# Altium schematic symbol library GD25LQ128DWIGR.SchLib: 1 symbol
Pins are listed as number, name and electrical type; pins without a type are passive.

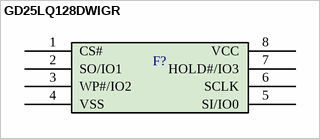
[diagram p0: symbol GD25LQ128DWIGR]

## GD25LQ128DWIGR
designator F?  (value not drawn)
SPI-FLASH
footprint GD25LQ128DWIGR
pins: 1 CS#, 2 SO/IO1, 3 WP#/IO2, 4 VSS, 5 SI/IO0, 6 SCLK, 7 HOLD#/IO3, 8 VCC